# Altium integrated library B3B-PH-K.IntLib: 1 symbol
Pins are listed as number, name and electrical type; pins without a type are passive.

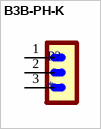
[diagram p0: symbol B3B-PH-K]

## B3B-PH-K
designator P?
Connector Header Through Hole 3 position 0.079 (2.00mm); MP: B3B-PH-K; MF: JST; Package: None; Value: *; Price: None; SnapEDA_Link: https://www.snapeda.com/parts/B3B-PH-K/JST/view-part/2895696/?ref=snap; Check_prices: https://www.snapeda.com/parts/B3B-PH-K/JST/view-part/2895696/?ref=eda; Availability: No availability data
footprint B3B-PH-K
pins: 1, 2, 3